# Altium schematic symbol library SAWACO.SchLib: 45 symbols
Pins are listed as number, name and electrical type; pins without a type are passive.

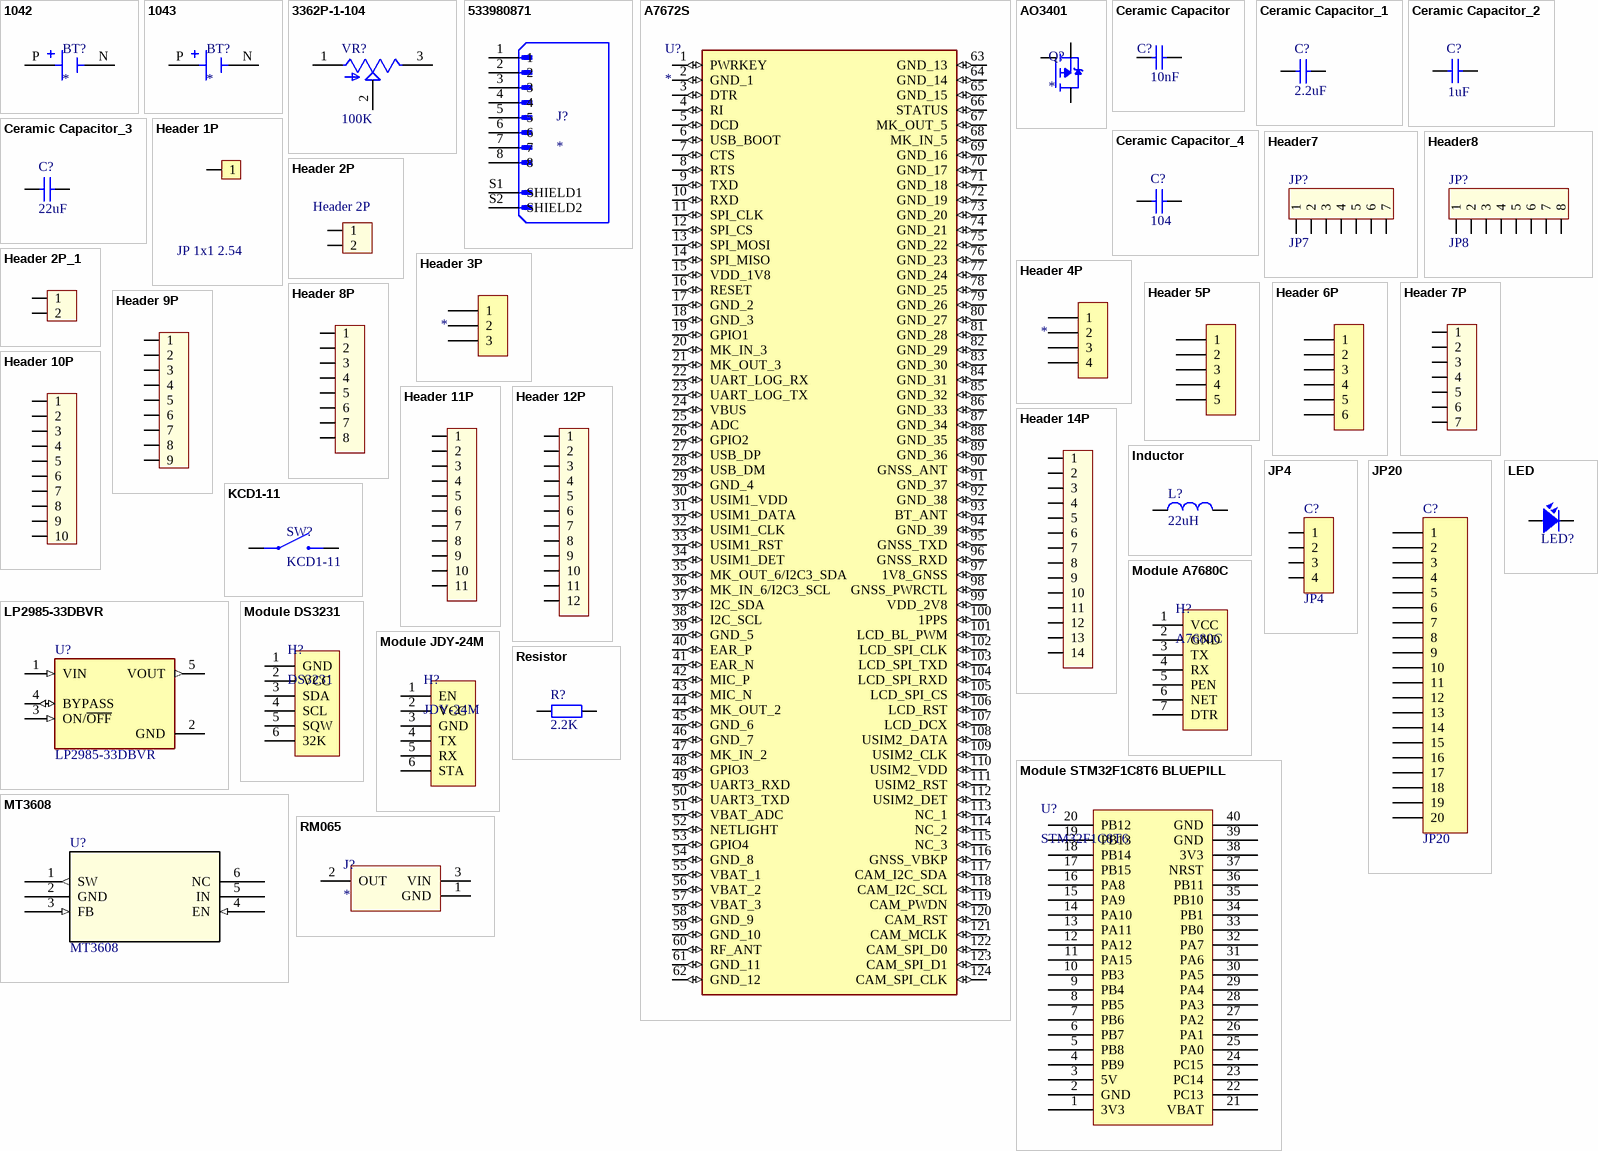
[diagram p0: symbols 1042 to RM065]

## 1042
designator BT?
SMT Battery Holder for 18650 Battery; MP: 1042; Availability: Unavailable; Value: *; Package: None; Price: None
footprint BAT_1042
pins: N NEG, P POS

## 1043
designator BT?
THM Battery Holder for 18650 Battery; MP: 1043; Price: None; Availability: Unavailable; Value: *; Package: None
footprint BAT_1043
pins: N NEG, P POS

## 3362P-1-104
designator VR?, comment 100K
100 kOhms 0.5W, 1/2W PC Pins Through Hole Trimmer Potentiometer Cermet 1 Turn Top Adjustment; MF: Bourns; MP: 3362P-1-104; Package: 2220 Bourns; Value: *; Purchase-URL: https://pricing.snapeda.com/search/part/3362P-1-104/?ref=eda; Check_prices: https://www.snapeda.com/parts/3362P-1-104/Bourns/view-part/547461/?ref=eda; SnapEDA_Link: https://www.snapeda.com/parts/3362P-1-104/Bourns/view-part/547461/?ref=snap; Availability: Warning; Price: None
footprint TRIM_3362P-1-104
pins: 1 CCW, 2 WIPER, 3 CW

## 533980871
designator J?
MX 1.25mm 8 pin;Conn; Rect; Header; 1.25 mm Pitch; PCB; 8 Cir; Ver; SMT; PicoBlade; LF | Molex Incorporated 53398-0871; MP: 533980871; Price: None; Availability: Unavailable; Value: *; Package: None
footprint MOLEX_533980871
pins: 1, 2, 3, 4, 5, 6, 7, 8, S1 SHIELD1, S2 SHIELD2

## A7672S
designator U?
LTE Cat 1 Module On Module 10Mbps 700MHz/800MHz/900MHz/1700MHz/1800MHz/1900MHz/2100MHz 33dBm 3.4V to 4.2V -109dBm; MF: SIMCom; MP: A7672S; SnapEDA_Link: https://www.snapeda.com/parts/A7672S/SIMCom/view-part/?ref=snap; Package: Package; Value: *; Check_prices: https://www.snapeda.com/parts/A7672S/SIMCom/view-part/?ref=eda
footprint A7672S
pins: 1 PWRKEY (io), 2 GND_1 (io), 3 DTR (io), 4 RI (io), 5 DCD (io), 6 USB_BOOT (io), 7 CTS (io), 8 RTS (io), 9 TXD (io), 10 RXD (io), 11 SPI_CLK (io), 12 SPI_CS (io), 13 SPI_MOSI (io), 14 SPI_MISO (io), 15 VDD_1V8 (io), 16 RESET (io), 17 GND_2 (io), 18 GND_3 (io), 19 GPIO1 (io), 20 MK_IN_3 (io), 21 MK_OUT_3 (io), 22 UART_LOG_RX (io), 23 UART_LOG_TX (io), 24 VBUS (io), 25 ADC (io), 26 GPIO2 (io), 27 USB_DP (io), 28 USB_DM (io), 29 GND_4 (io), 30 USIM1_VDD (io), 31 USIM1_DATA (io), 32 USIM1_CLK (io), 33 USIM1_RST (io), 34 USIM1_DET (io), 35 MK_OUT_6/I2C3_SDA (io), 36 MK_IN_6/I2C3_SCL (io), 37 I2C_SDA (io), 38 I2C_SCL (io), 39 GND_5 (io), 40 EAR_P (io), 41 EAR_N (io), 42 MIC_P (io), 43 MIC_N (io), 44 MK_OUT_2 (io), 45 GND_6 (io), 46 GND_7 (io), 47 MK_IN_2 (io), 48 GPIO3 (io), 49 UART3_RXD (io), 50 UART3_TXD (io), 51 VBAT_ADC (io), 52 NETLIGHT (io), 53 GPIO4 (io), 54 GND_8 (io), 55 VBAT_1 (io), 56 VBAT_2 (io), 57 VBAT_3 (io), 58 GND_9 (io), 59 GND_10 (io), 60 RF_ANT (io), 61 GND_11 (io), 62 GND_12 (io), 63 GND_13 (io), 64 GND_14 (io), 65 GND_15 (io), 66 STATUS (io), 67 MK_OUT_5 (io), 68 MK_IN_5 (io), 69 GND_16 (io), 70 GND_17 (io), 71 GND_18 (io), 72 GND_19 (io), 73 GND_20 (io), 74 GND_21 (io), 75 GND_22 (io), 76 GND_23 (io), 77 GND_24 (io), 78 GND_25 (io), 79 GND_26 (io), 80 GND_27 (io), 81 GND_28 (io), 82 GND_29 (io), 83 GND_30 (io), 84 GND_31 (io), 85 GND_32 (io), 86 GND_33 (io), 87 GND_34 (io), 88 GND_35 (io), 89 GND_36 (io), 90 GNSS_ANT (io), 91 GND_37 (io), 92 GND_38 (io), 93 BT_ANT (io), 94 GND_39 (io), 95 GNSS_TXD (io), 96 GNSS_RXD (io), 97 1V8_GNSS (io), 98 GNSS_PWRCTL (io), 99 VDD_2V8 (io), 100 1PPS (io), 101 LCD_BL_PWM (io), 102 LCD_SPI_CLK (io), 103 LCD_SPI_TXD (io), 104 LCD_SPI_RXD (io), 105 LCD_SPI_CS (io), 106 LCD_RST (io), 107 LCD_DCX (io), 108 USIM2_DATA (io), 109 USIM2_CLK (io), 110 USIM2_VDD (io), 111 USIM2_RST (io), 112 USIM2_DET (io), 113 NC_1 (io), 114 NC_2 (io), 115 NC_3 (io), 116 GNSS_VBKP (io), 117 CAM_I2C_SDA (io), 118 CAM_I2C_SCL (io), 119 CAM_PWDN (io), 120 CAM_RST (io), 121 CAM_MCLK (io), 122 CAM_SPI_D0 (io), 123 CAM_SPI_D1 (io), 124 CAM_SPI_CLK (io)

## AO3401
designator Q?
Mosfet P-Channel 30 V 4A (Ta) 1.4W (Ta) Surface Mount SOT-23-3; MF: Alpha &; MP: AO3401; SnapEDA_Link: https://www.snapeda.com/parts/AO3401/Alpha+%2526+Omega+Semiconductor+Inc./view-part/?ref=snap; Package: TO-236-3 Alpha &amp; Omega Semiconductor Inc.; Value: *; Check_prices: https://www.snapeda.com/parts/AO3401/Alpha+%2526+Omega+Semiconductor+Inc./view-part/?ref=eda
footprint SOT23
pins: 1 G, 2 S, 3 D

## Ceramic Capacitor
designator C?, comment 10nF
Chung_Loai: Dán; Don_Vi: Con; So_Chan: 2; Ten_Linh_Kien: Tụ 0805 104-100nF 10% 50V; Ma_Hang: MH004551; Kieu_Chan: *
footprint 0603_Cap (0603 SMD Ceramic Capacitor)
footprint 0805_Cap (0805 SMD Ceramic Capacitor)
footprint 1206_CAP (3216 Tantalum Capacitor)
pins: 1, 2

## Ceramic Capacitor_1
designator C?, comment 2.2uF
Chung_Loai: Dán; Don_Vi: Con; So_Chan: 2; Ten_Linh_Kien: Tụ 0805 104-100nF 10% 50V; Ma_Hang: MH004551; Kieu_Chan: *
footprint 0603_Cap (0603 SMD Ceramic Capacitor)
footprint 0805_Cap (0805 SMD Ceramic Capacitor)
footprint 1206_CAP (3216 Tantalum Capacitor)
pins: 1, 2

## Ceramic Capacitor_2
designator C?, comment 1uF
Chung_Loai: Dán; Don_Vi: Con; So_Chan: 2; Ten_Linh_Kien: Tụ 0805 104-100nF 10% 50V; Ma_Hang: MH004551; Kieu_Chan: *
footprint 0603_Cap (0603 SMD Ceramic Capacitor)
footprint 0805_Cap (0805 SMD Ceramic Capacitor)
footprint 1206_CAP (3216 Tantalum Capacitor)
pins: 1, 2

## Ceramic Capacitor_3
designator C?, comment 22uF
Chung_Loai: Dán; Don_Vi: Con; So_Chan: 2; Ten_Linh_Kien: Tụ 0805 104-100nF 10% 50V; Ma_Hang: MH004551; Kieu_Chan: *
footprint 0603_Cap (0603 SMD Ceramic Capacitor)
footprint 0805_Cap (0805 SMD Ceramic Capacitor)
footprint 1206_CAP (3216 Tantalum Capacitor)
pins: 1, 2

## Ceramic Capacitor_4
designator C?, comment 104
Chung_Loai: Dán; Don_Vi: Con; So_Chan: 2; Ten_Linh_Kien: Tụ 0805 104-100nF 10% 50V; Ma_Hang: MH004551; Kieu_Chan: *
footprint 0603_Cap (0603 SMD Ceramic Capacitor)
footprint 0805_Cap (0805 SMD Ceramic Capacitor)
footprint 1206_CAP (3216 Tantalum Capacitor)
pins: 1, 2

## Header7
designator JP?, comment JP7
Connector 7; Value: Connector 7
footprint Header7 (CON7)
pins: 1, 2, 3, 4, 5, 6, 7

## Header8
designator JP?, comment JP8
Connector 8; Value: Connector 8
footprint Header8 (CON8)
pins: 1, 2, 3, 4, 5, 6, 7, 8

## Header 1P
designator JP?, comment JP 1x1 2.54
THT; Ten_Linh_Kien: Jump Đơn Đực 2.54MM 1x40P Thẳng 11MM; Don_Vi: Con; Ma_Hang: MH000903; Chung_Loai: Cắm; Ghi_Chu: *; Kieu_Chan: *
footprint JP 1x1
pins: 1

## Header 2P
designator H?
THT; Ten_Linh_Kien: Header 2P XH2.54-2P Đực Cong; Don_Vi: Con; Ma_Hang: MH002852; Chung_Loai: Cắm
footprint XH2.54M-2
footprint CON 2 EDG5.08-2P
footprint JP 1x2
pins: 1, 2

## Header 2P_1
designator H?
THT; Ten_Linh_Kien: Header 2P XH2.54-2P Đực Cong; Don_Vi: Con; Ma_Hang: MH002852; Chung_Loai: Cắm
footprint XH2.54M-2
footprint CON 2 EDG5.08-2P
footprint JP 1x2
footprint KF301-2P
pins: 1, 2

## Header 3P
designator H?
THT; Ten_Linh_Kien: Header 3P XH2.54-3P Đực Cong; Don_Vi: Con; Ma_Hang: MH001302; Chung_Loai: Cắm
footprint XH2.54M-3
footprint CON 3 EDG5.08-3P
footprint JP 1X3
footprint KF301_PIN3
pins: 1, 2, 3

## Header 4P
designator H?
THT; Ten_Linh_Kien: Header 4P XH2.54-4P Đực Cong; Don_Vi: Con; Ma_Hang: MH001310; Chung_Loai: Cắm
footprint XH2.54M-4
footprint CON 4 EDG5.08-4P
footprint JP 1X4
pins: 1, 2, 3, 4

## Header 5P
designator H?
THT; Ten_Linh_Kien: Header 5P XH2.54-5P Đực Cong; Don_Vi: Con; Ma_Hang: MH001308; Chung_Loai: Cắm
footprint XH2.54M-5
footprint CON 5 EDG5.08-5P
footprint JP 1X5
pins: 1, 2, 3, 4, 5

## Header 6P
designator H?
THT; Ten_Linh_Kien: Header 6P XH2.54-6P Đực Cong; Don_Vi: Con; Ma_Hang: MH003363; Chung_Loai: Cắm
footprint XH2.54M-6
footprint JP 1X6
pins: 1, 2, 3, 4, 5, 6

## Header 7P
designator H?
THT; Ten_Linh_Kien: Header 7P XH2.54-7P Đực Cong; Don_Vi: Con; Ma_Hang: MH004118; Chung_Loai: Cắm
footprint JP 1X7
pins: 1, 2, 3, 4, 5, 6, 7

## Header 8P
designator H?
THT; Ten_Linh_Kien: Header 8P XH2.54-8P Đực Cong; Don_Vi: Con; Ma_Hang: MH003367; Chung_Loai: Cắm
footprint JP 1X8
pins: 1, 2, 3, 4, 5, 6, 7, 8

## Header 9P
designator H?
THT; Ten_Linh_Kien: Header 8P XH2.54-8P Đực Thẳng; Don_Vi: Con; Ma_Hang: MH003366; Chung_Loai: Cắm
footprint XH2.54M-9
footprint JP 1X9
pins: 1, 2, 3, 4, 5, 6, 7, 8, 9

## Header 10P
designator H?
THT; Ten_Linh_Kien: Header 10P XH2.54-10P Đực Thẳng; Don_Vi: Con; Ma_Hang: MH001286; Chung_Loai: Cắm
footprint JP 1X10
pins: 1, 2, 3, 4, 5, 6, 7, 8, 9, 10

## Header 11P
designator H?
THT; Ten_Linh_Kien: Header 10P XH2.54-10P Đực Thẳng; Don_Vi: Con; Ma_Hang: MH001286; Chung_Loai: Cắm
footprint JP 1X11
pins: 1, 2, 3, 4, 5, 6, 7, 8, 9, 10, 11

## Header 12P
designator H?
THT; Ten_Linh_Kien: Header 10P XH2.54-10P Đực Thẳng; Don_Vi: Con; Ma_Hang: MH001286; Chung_Loai: Cắm
footprint JP 1X12
pins: 1, 2, 3, 4, 5, 6, 7, 8, 9, 10, 11, 12

## Header 14P
designator H?
THT; Ten_Linh_Kien: Header 10P XH2.54-10P Đực Thẳng; Don_Vi: Con; Ma_Hang: MH001286; Chung_Loai: Cắm
footprint JP 1X14
pins: 1, 2, 3, 4, 5, 6, 7, 8, 9, 10, 11, 12, 13, 14

## Inductor
designator L?, comment 22uH
Inductors from EPCOS include SMT Inductors, SMT Power Inductors, Transponder Coils, ISDN Transformers, xDSL Transformers, DC/DC Converters, RF Transformers and SMT Current Sense Transformers.; MP: B82477G4472M000; Price: None; SnapEDA_Link: https://www.snapeda.com/parts/B82477G4472M000/EPCOS/view-part/?ref=snap; Package: NON STANDARD-2 EPCOS; Value: *; Check_prices: https://www.snapeda.com/parts/B82477G4472M000/EPCOS/view-part/?ref=eda; Availability: In Stock; MF: EPCOS; Purchase-URL: https://pricing.snapeda.com/search/part/B82477G4472M000/?ref=eda
footprint 0603_Inductor (SMD)
footprint Inductor 5A (THT)
footprint INDUCTOR CDRH104 (CDRH104 Cu?n C?m Dan SMD 1038-220 22uH 3.6A)
pins: 1, 2

## JP4
designator C?
WR-PHD 2.54 mm Angled Socket Header; Manufacturer: W¨¹rth Elektronik eiSos GmbH; partNo: 613004143121; ComponentLink1 Description: Manufacturer; ComponentLink2 Description: Datasheet; NoPins: 04; Created Date: 29 March 2013; ComponentLink1URL: http://www.we-online.com; ComponentLink2URL: http://katalog.we-online.de/em/datasheet/6130xx143121.pdf; Created by: Karrer Zheng
footprint JP4-C1T (4 row, straight, gold plating)
footprint JP4-D1C (4 pins, 1 row, right angled, gold plating)
footprint JP4-C1C (04p 1 row Right angle)
footprint JP4-D1C (4 pins, 1 row, right angled, gold plating)
pins: 1, 2, 3, 4

## JP20
designator C?
WR-PHD 2.54 mm Angled Socket Header; Manufacturer: W¨¹rth Elektronik eiSos GmbH; partNo: 613020143121; ComponentLink1 Description: Manufacturer; ComponentLink2 Description: Datasheet; NoPins: 20; Created Date: 29 March 2013; ComponentLink1URL: http://www.we-online.com; ComponentLink2URL: http://katalog.we-online.de/em/datasheet/6130xx143121.pdf; Created by: Karrer Zheng
footprint JP20-C1T (20 row, straight, gold plating)
footprint JP20-C1C (20p 1 row Right angle)
footprint JP20-D1T (20 pins, 1 row, straight, gold plating)
pins: 1, 2, 3, 4, 5, 6, 7, 8, 9, 10, 11, 12, 13, 14, 15, 16, 17, 18, 19, 20

## KCD1-11
designator SW?
ON-OFF Power Switch 2 Pin 6A
footprint KCD1-11-2P (KCD1-11 power switch)
pins: 1, 2

## LED
designator LED?  (value not drawn)
LED single color 2 leads
footprint 0603_LED (LED single color 2 leads)
pins: A Anode, C Cathode

## LP2985-33DBVR
designator U?
150-mA, 16-V, low-dropout voltage regulator with enable 5-SOT-23 -40 to 125; Package: None; Value: *; Price: None; MP: LP2985-33DBVR; Availability: Unavailable
footprint SOT95P280X145-5N
pins: 1 VIN (in), 2 GND (power), 3 ON/~{OFF} (in), 4 BYPASS (io), 5 VOUT (out)

## Module A7680C
designator H?, comment A7680C
SIM Module A7680C; A7672S 4G
footprint Module A7680C (Footprint for A7680C)
pins: 1 VCC, 2 GND, 3 TX, 4 RX, 5 PEN, 6 NET, 7 DTR

## Module DS3231
designator H?, comment DS3231
Module RTC (Real Time Clock) DS3231 6p
footprint Module DS3231
pins: 1 GND, 2 VCC, 3 SDA, 4 SCL, 5 SQW, 6 32K

## Module JDY-24M
designator H?, comment JDY-24M
Module BLE JDY-24M Bluetooth module 6p
footprint Module JDY-24M
pins: 1 EN, 2 VCC, 3 GND, 4 TX, 5 RX, 6 STA

## Module STM32F1C8T6 BLUEPILL
designator U?, comment STM32F1C8T6
Module stm32f1 Bluepill
footprint Module STM32F1C8T6 BLUEPILL (stm32f1 Bluepill)
pins: 1 3V3, 2 GND, 3 5V, 4 PB9, 5 PB8, 6 PB7, 7 PB6, 8 PB5, 9 PB4, 10 PB3, 11 PA15, 12 PA12, 13 PA11, 14 PA10, 15 PA9, 16 PA8, 17 PB15, 18 PB14, 19 PB13, 20 PB12, 21 VBAT, 22 PC13, 23 PC14, 24 PC15, 25 PA0, 26 PA1, 27 PA2, 28 PA3, 29 PA4, 30 PA5, 31 PA6, 32 PA7, 33 PB0, 34 PB1, 35 PB10, 36 PB11, 37 NRST, 38 3V3, 39 GND, 40 GND

## MT3608
designator U?
No Description Available; Mfr_Name: Aerosemi; RefDes: RefDes; Type: Type
footprint TSOT23-6SOT23-6_AER
pins: 1 SW (out), 2 GND (power), 3 FB (in), 4 EN (in), 5 IN (power), 6 NC

## Resistor
designator R?, comment 2.2K
Chung_Loai: Dán; Don_Vi: Con; So_Chan: 2; Ten_Linh_Kien: Trở 0805 1% 1k; Ma_Hang: MH005468; Kieu_Chan: *
footprint 0805_Res (0805 SMD Resistor)
footprint 0603_Res (0603 SMD Resistor)
pins: 1, 2

## RM065
designator J?
Circuit Breaker Thermal 6.5A 240V AC 60V DC Rocker Panel Mount, Snap-In; MP: RM-065; MF: Vishay; Value: *; Package: None; Availability: Not in stock; SnapEDA_Link: https://www.snapeda.com/parts/RM-065/Vishay/view-part/?ref=snap; Price: None; Check_prices: https://www.snapeda.com/parts/RM-065/Vishay/view-part/?ref=eda
footprint RM065
pins: 1 GND, 2 OUT, 3 VIN

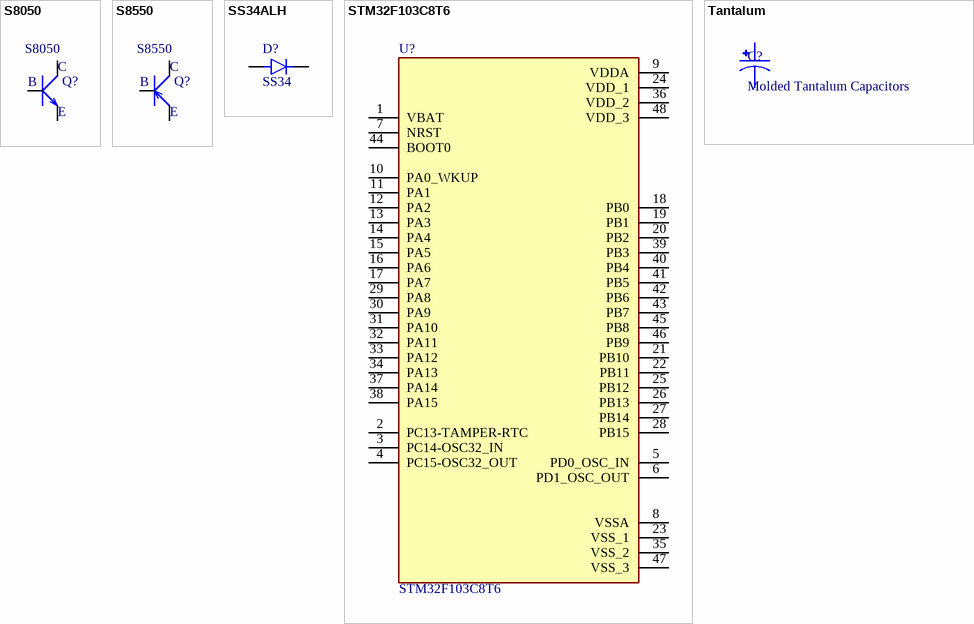
[diagram p1: symbols S8050 to Tantalum]

## S8050
designator Q?
Bipolar (BJT) Transistor NPN SOT-23; MF: UMW; Purchase-URL: https://banlinhkien.com/s8050-sot23-trans-npn-0.5a-40v-j3y-10c-p15943539.html; Check_prices: https://banlinhkien.com/s8050-sot23-trans-npn-0.5a-40v-j3y-10c-p15943539.html; Link: https://banlinhkien.com/s8050-sot23-trans-npn-0.5a-40v-j3y-10c-p15943539.html; Price: None; Availability: In Stock; Package: None; MP: S8050; Value: *
footprint SOT23
pins: 1 B, 2 E, 3 C

## S8550
designator Q?
Bipolar (BJT) Transistor PNP SOT-23; MF: UMW; MP: S8050; Purchase-URL: https://banlinhkien.com/s8050-sot23-trans-npn-0.5a-40v-j3y-10c-p15943539.html; Check_prices: https://banlinhkien.com/s8050-sot23-trans-npn-0.5a-40v-j3y-10c-p15943539.html; SnapEDA_Link: https://www.snapeda.com/parts/S8050/Umwelt+Sensor+Teknik/view-part/?ref=snap; Price: None; Availability: In Stock; Package: None; Value: *
footprint SOT23
pins: 1 B, 2 E, 3 C

## SS34ALH
designator D?, comment SS34
3A, 40V, Schottky Rectifier; MP: SS34ALH; MF: Taiwan Semiconductor; Package: DO-221AC Taiwan Semiconductor; Value: *; SnapEDA_Link: https://www.snapeda.com/parts/SS34ALH/Taiwan+Semiconductor/view-part/?ref=snap; Availability: Not in stock; Price: None; Check_prices: https://www.snapeda.com/parts/SS34ALH/Taiwan+Semiconductor/view-part/?ref=eda
footprint SODFL5226X100N
pins: 1 K, 2 A

## STM32F103C8T6
designator U?
ARMÂ® CortexÂ®-M3 STM32F1 Microcontroller IC 32-Bit 72MHz 64KB (64K x 8) FLASH 48-LQFP (7x7); MF: STMicroelectronics; Price: None; Availability: In Stock; MP: STM32F103C8T6; Package: LQFP-48 STMicroelectronics; Link: https://icdayroi.com/stm32f103c8t6; Check_prices: https://icdayroi.com/stm32f103c8t6; Value: *; Purchase-URL: https://pricing.snapeda.com/search/part/STM32F103C8T6/?ref=eda
footprint LQFP-48
pins: 1 VBAT, 2 PC13-TAMPER-RTC, 3 PC14-OSC32_IN, 4 PC15-OSC32_OUT, 5 PD0_OSC_IN, 6 PD1_OSC_OUT, 7 NRST, 8 VSSA (power), 9 VDDA (power), 10 PA0_WKUP, 11 PA1, 12 PA2, 13 PA3, 14 PA4, 15 PA5, 16 PA6, 17 PA7, 18 PB0, 19 PB1, 20 PB2, 21 PB10, 22 PB11, 23 VSS_1 (power), 24 VDD_1 (power), 25 PB12, 26 PB13, 27 PB14, 28 PB15, 29 PA8, 30 PA9, 31 PA10, 32 PA11, 33 PA12, 34 PA13, 35 VSS_2 (power), 36 VDD_2 (power), 37 PA14, 38 PA15, 39 PB3, 40 PB4, 41 PB5, 42 PB6, 43 PB7, 44 BOOT0, 45 PB8, 46 PB9, 47 VSS_3 (power), 48 VDD_3 (power)

## Tantalum
designator C?, comment Molded Tantalum Capacitors
footprint 2312_Tantalum
footprint 2917 _Tantalum
footprint 1206_Tantalum
pins: 1, 2